# Altium footprint library 395021004.PcbLib: 1 footprints
Each footprint in its own frame and in the unit in brackets; x right, y up, seen from the top. Pads: shape width x height; smd on the part's side, far side on the other; paste and mask are expansions set on the pad; w line width, h text height; cw(c..) or ccw(c..) is an arc to the next point about the centre after c.
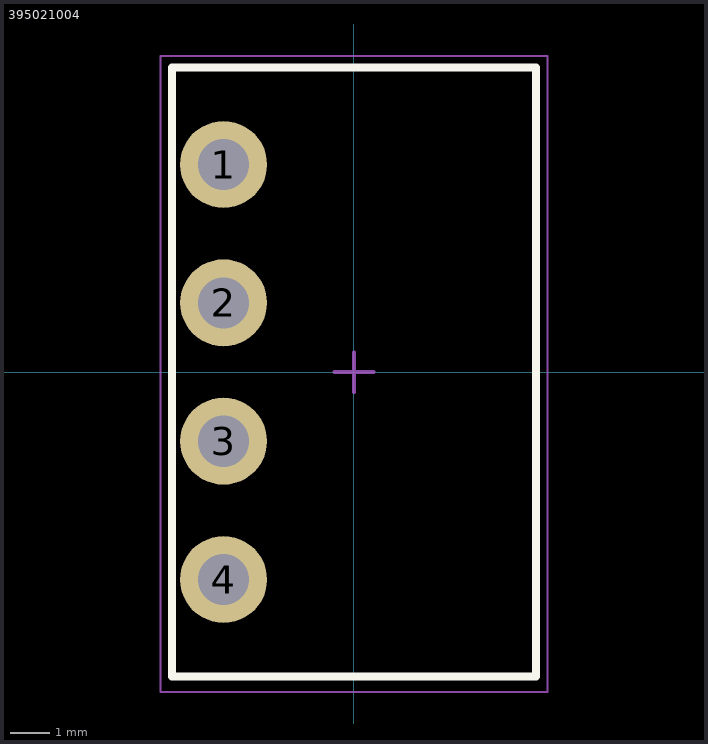
[diagram p0: the footprint, top view; thin cyan lines are the x and y axes]

## 395021004 [mm] "4 Position Terminal Block Header, Male Pins, 3.5mm Pitch,15.44mmx9.2mm Body, 90°, Right Angle, THT"
height 7.3
pads (4):
  round 2.2 hole 1.295: 1(-3.3,5.25) 2(-3.3,1.75) 3(-3.3,-1.75) 4(-3.3,-5.25)
Top Overlay:
  lines w0.2: -4.6,-7.7 4.6,-7.7 4.6,7.7 -4.6,7.7 -4.6,-7.7
Top Comment:
  text ".Comment" at 1.3,8.1 h1.2
Top Designator:
  text ".Designator" at -0.8,8.2 h1.2
Top Component Outline:
  lines w0.1: -4.6,-7.7 4.6,-7.7 4.6,7.714 -4.6,7.714 -4.6,-7.7
Top Courtyard:
  lines w0.05: -4.9,-8.1 -4.9,8 4.9,8 4.9,-8.1 -4.9,-8.1
  lines w0.1: -0.5,0 0,0 ; 0,-0.5 0,0 ; 0,0.5 0,0 ; 0.5,0 0,0
3D body "Molex - 395021004 v1.step": height 7.11, standoff -3.56, extent -4.57,-7.721 4.574,7.722